# Altium footprint library Redressement.PcbLib: 5 footprints
Each footprint in its own frame and in the unit in brackets; x right, y up, seen from the top. Pads: shape width x height; smd on the part's side, far side on the other; paste and mask are expansions set on the pad; w line width, h text height; cw(c..) or ccw(c..) is an arc to the next point about the centre after c.
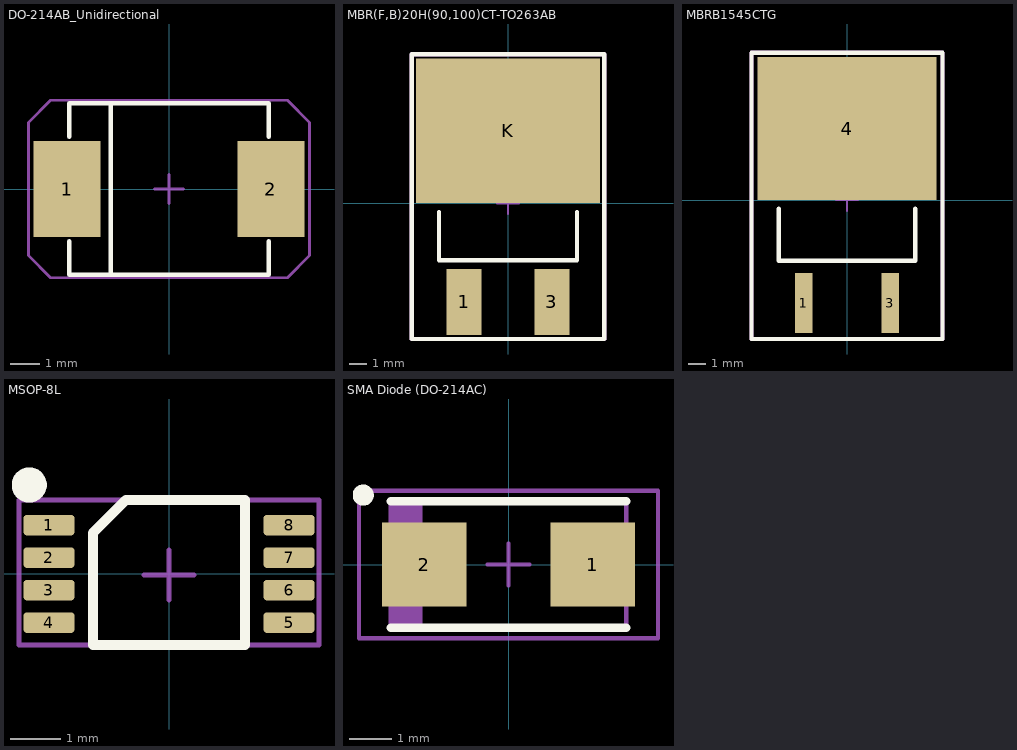
[diagram p0: the footprints below, top view; thin cyan lines are the x and y axes]

## DO-214AB_Unidirectional [mm] "WE-TVSP Power TVS Diode, DO-214AB, Unidirectional"
height 2.5
pads (2):
  rect 2.3x3.3 smd: 1(-3.5,0) 2(3.5,0)
Top Overlay:
  lines w0.152: -3.43,-1.8 -3.43,-2.95 3.43,-2.95 3.43,-1.8 ; -3.43,1.8 -3.43,2.95 3.43,2.95 3.43,1.8 ; -2,-2.95 -2,2.95
Mechanical 15:
  lines w0.1: -0.5,0 0.5,0 ; 0,-0.5 0,0.5 ; -4.826,-2.286 -4.826,2.286 -4.064,3.048 4.064,3.048 4.826,2.286 4.826,-2.286 4.064,-3.048 -4.064,-3.048 -4.826,-2.286
3D body "DO-214AB_Unidirectional.stp": height 2.5, standoff 0.01, extent -3.97,-2.952 3.97,2.953

## MBR(F,B)20H(90,100)CT-TO263AB [mm]
height 4.8
pads (3):
  rect 2.032x3.81 smd: 1(-2.54,-5.725) 3(2.54,-5.725)
  rect 10.66x8.38 smd: K(0,4.19)
Top Overlay:
  lines w0.254: -4,-0.508 -4,-3.302 4,-3.302 4,-0.508 ; -5.588,-7.874 -5.588,8.636 5.588,8.636 5.588,-7.874 -5.588,-7.874
Mechanical 13:
  lines w0.254: -5.588,-7.874 5.588,-7.874 5.588,8.636 -5.588,8.636 -5.588,-7.874
Mechanical 15:
  lines w0.127: -0.635,0 0.635,0 ; 0,-0.635 0,0.635 ; -5.588,-7.874 5.588,-7.874 5.588,8.636 -5.588,8.636 -5.588,-7.874
Mechanical 17:
  text ".Designator" at -4.3,-0.1 h2

## MBRB1545CTG [mm]
height 4.8
pads (3):
  rect 1.016x3.504 smd: 1(-2.54,-6.023) 3(2.54,-6.023)
  rect 10.49x8.38 smd: 4(0,4.19)
Top Overlay:
  lines w0.254: -4,-0.508 -4,-3.556 4,-3.556 4,-0.508 ; -5.588,-8.128 5.588,-8.128 5.588,8.636 -5.588,8.636 -5.588,-8.128
Mechanical 13:
  lines w0.254: -5.588,-8.128 -5.588,8.636 5.588,8.636 5.588,-8.128 -5.588,-8.128
Mechanical 15:
  lines w0.127: -0.635,0 0.635,0 ; 0,-0.635 0,0.635 ; -5.588,-8.128 -5.588,8.636 5.588,8.636 5.588,-8.128 -5.588,-8.128
Mechanical 17:
  text ".Designator" at -4.3,-0.1 h2

## MSOP-8L [mm] "MSOP-8L, 8-Leads, Body 5x3mm, Pitch 0.5mm"
height 0.975
pads (8):
  rrect30% 1.016x0.406 smd: 1(-2.4,0.975) 2(-2.4,0.325) 3(-2.4,-0.325) 4(-2.4,-0.975) 5(2.4,-0.975) 6(2.4,-0.325) 7(2.4,0.325) 8(2.4,0.975)
Top Overlay:
  circle w0.5: c-2.794,1.778 r0.1
  lines w0.2: -1.524,-1.425 -1.524,0.815 -0.864,1.475 1.524,1.475 1.524,-1.425 -1.524,-1.425
Mechanical 13:
  text ".Designator" at -1.016,-0.762 h1.2
Mechanical 15:
  lines w0.1: -3,-1.425 -3,1.475 ; -0.5,-0.025 0.5,-0.025 ; 0,-0.525 0,0.475 ; 3,-1.425 3,1.475
  lines w0.102: -3,-1.425 3,-1.425 ; -3,1.475 3,1.475
3D body "WE-TVS_Super_Speed_MSOP-8L.stp": height 0.94, standoff -0.04, extent -2.35,-1.525 2.55,1.475

## SMA Diode (DO-214AC) [mm] "Case 403D-02"
height 2.41
pads (2):
  rect 2x2 smd: 1(2,0) 2(-2,0)
Top Overlay:
  circle w0.25: c-3.45,1.65 r0.125
  lines w0.2: -2.8,-1.5 2.8,-1.5 ; -2.8,1.5 2.8,1.5
Mechanical 13:
  rectangle: -2.797,-1.461 -2.045,1.459
  lines w0.1: -2.795,-1.46 2.795,-1.46 2.795,1.46 -2.795,1.46 -2.795,-1.46
Mechanical 15:
  lines w0.1: -0.5,0 0.5,0 ; 0,-0.5 0,0.5 ; -3.55,-1.75 3.55,-1.75 3.55,1.75 -3.55,1.75 -3.55,-1.75
3D body: height 2.41, standoff 0, extent -2.795,-1.46 2.795,1.46
3D body "DO-214-SMA.step": height 2.4, standoff 0, extent -2.6,-1.295 2.6,1.305